# Altium integrated library HEAT SINK.IntLib: 1 symbol
Pins are listed as number, name and electrical type; pins without a type are passive.

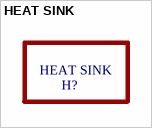
[diagram p0: symbol HEAT SINK]

## HEAT SINK
designator H?
footprint HEAT SINK